# Altium footprint library SnapEDApcb.PcbLib: 1 footprints
Each footprint in its own frame and in the unit in brackets; x right, y up, seen from the top. Pads: shape width x height; smd on the part's side, far side on the other; paste and mask are expansions set on the pad; w line width, h text height; cw(c..) or ccw(c..) is an arc to the next point about the centre after c.
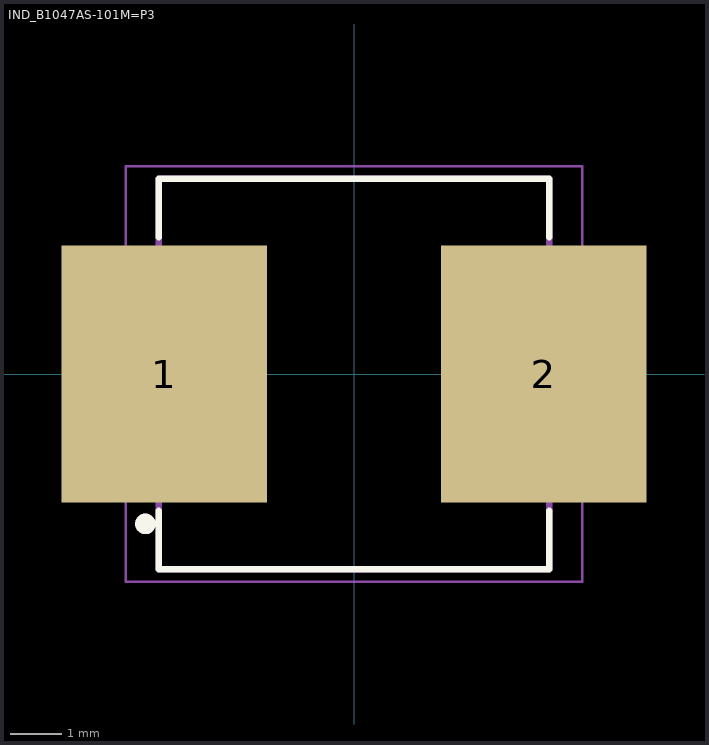
[diagram p0: the footprint, top view; thin cyan lines are the x and y axes]

## IND_B1047AS-101M=P3 [mm]
pads (2):
  rect 4x5 smd: 1(-3.7,0) 2(3.7,0)
Top Overlay:
  circle w0.2: c-4.064,-2.921 r0.1
  lines w0.127: -3.8,-2.667 -3.8,-3.8 3.8,-3.8 3.8,-2.667 ; -3.8,2.667 -3.8,3.8 3.8,3.8 3.8,2.667
Mechanical 13:
  circle w0.2: c-4.064,-2.921 r0.1
  lines w0.127: -3.8,-3.8 -3.8,3.8 3.8,3.8 3.8,-3.8 -3.8,-3.8
Mechanical 15:
  lines w0.05: -4.45,-4.05 -4.45,4.05 4.45,4.05 4.45,-4.05 -4.45,-4.05
3D body "B1047AS-101M=P3.STEP": height 5, standoff 0, extent -3.8,-3.8 3.8,3.8